# Altium footprint library 691 231 710 0xx.PcbLib: 2 footprints
Each footprint in its own frame and in the unit in brackets; x right, y up, seen from the top. Pads: shape width x height; smd on the part's side, far side on the other; paste and mask are expansions set on the pad; w line width, h text height; cw(c..) or ccw(c..) is an arc to the next point about the centre after c.
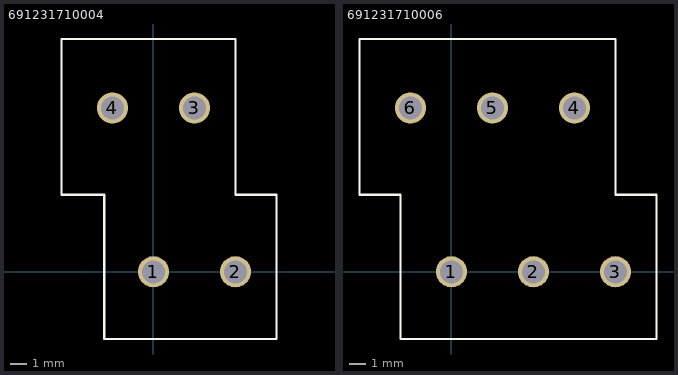
[diagram p0: the footprints below, top view; thin cyan lines are the x and y axes]

## 691231710004 [mm] "5,00mm - modular - 2 rows - Right - horizontal entry with rising cage clamp - 04p - h=19,1mm"
height 19.1
pads (4):
  round 1.9 hole 1.4: 1(0,0) 2(5,0) 3(2.5,10) 4(-2.5,10)
Top Overlay:
  lines w0.127: -5.5,4.7 -3.5,4.7 ; -5.6,4.7 -3,4.7 -3,-4.1 7.5,-4.1 7.5,4.7 5,4.7 5,14.2 -5.6,14.2 -5.6,4.7
3D body: height 19.11, standoff -3.49, extent -5.6,-4.1 7.5,14.2

## 691231710006 [mm] "5,00mm - modular - 2 rows - Right - horizontal entry with rising cage clamp - 06p - h=19,1mm"
height 19.1
pads (6):
  round 1.9 hole 1.4: 1(0,0) 2(5,0) 3(10,0) 4(7.5,10) 5(2.5,10) 6(-2.5,10)
Top Overlay:
  lines w0.127: -5.6,4.7 -5.6,14.2 10,14.2 10,4.7 12.5,4.7 12.5,-4.1 -3.1,-4.1 -3.1,4.7 -5.6,4.7
3D body: height 19.11, standoff -3.49, extent -5.6,-4.1 12.5,14.2